# Altium footprint library Interface.PcbLib: 10 footprints
Each footprint in its own frame and in the unit in brackets; x right, y up, seen from the top. Pads: shape width x height; smd on the part's side, far side on the other; paste and mask are expansions set on the pad; w line width, h text height; cw(c..) or ccw(c..) is an arc to the next point about the centre after c.
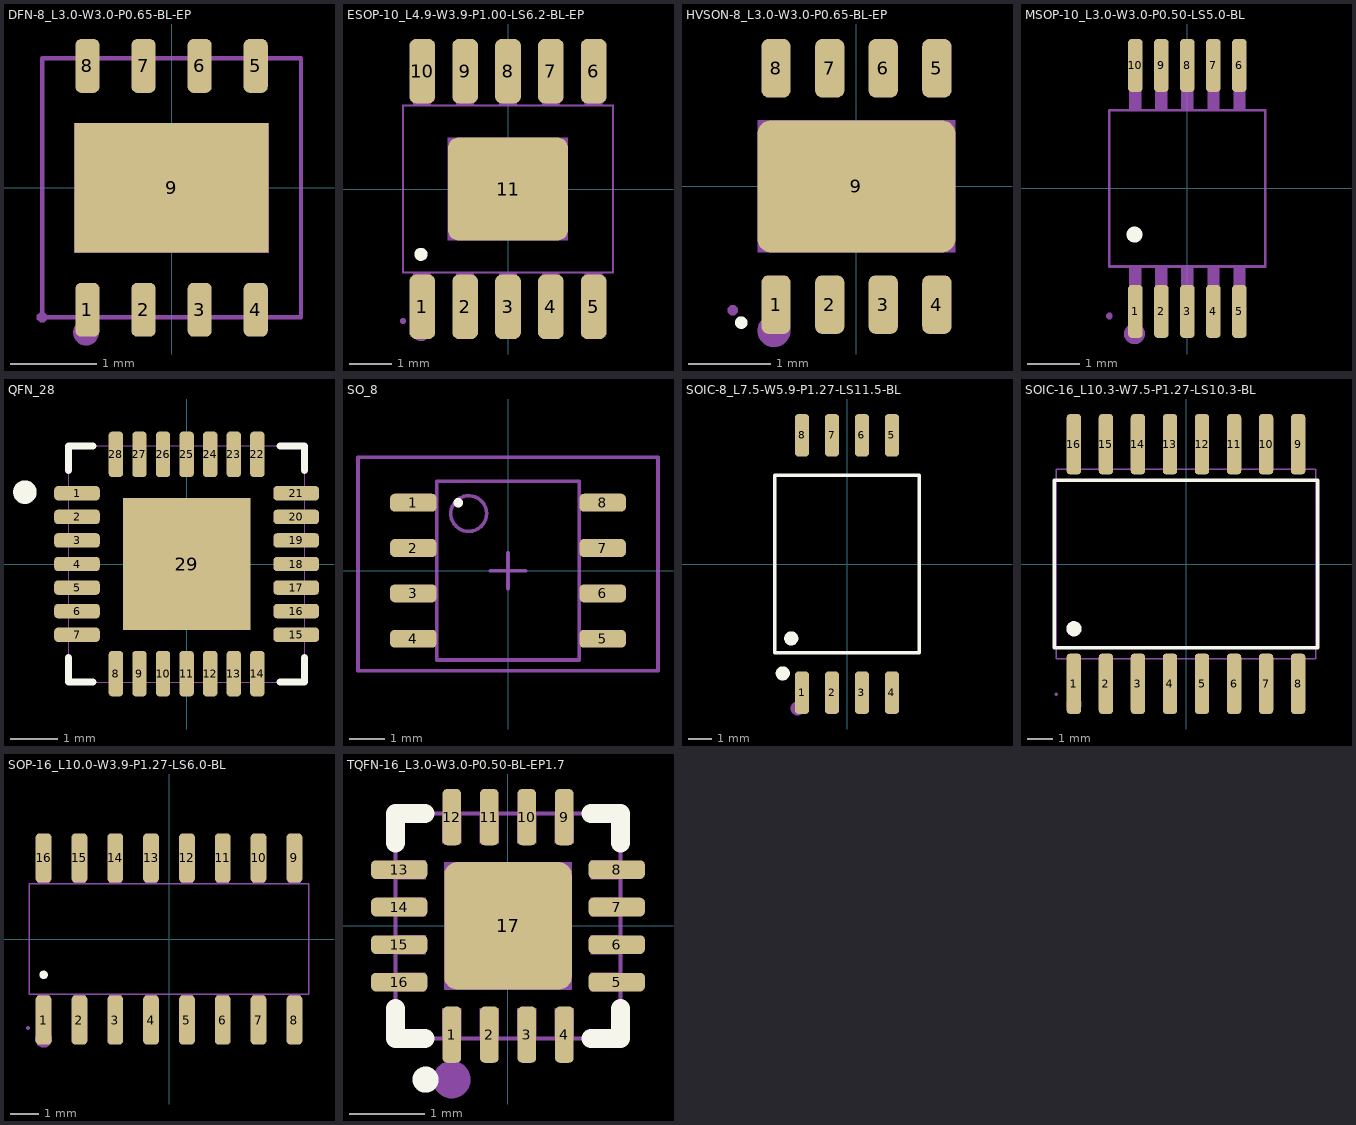
[diagram p0: the footprints below, top view; thin cyan lines are the x and y axes]

## DFN-8_L3.0-W3.0-P0.65-BL-EP [mm]
pads (9):
  rrect50% 0.28x0.625 smd mask+0.051: 1(-0.975,-1.412) 2(-0.325,-1.412) 3(0.325,-1.412) 4(0.975,-1.412) 5(0.975,1.412) 6(0.325,1.412) 7(-0.325,1.412) 8(-0.975,1.412)
  rect 2.25x1.5 smd mask+0.051: 9(0,0)
Mechanical 6:
  circle w0.15: c-0.991,-1.676 r0.075
Mechanical 15:
  region: -1.125,-0.75 -1.125,0.75 1.125,0.75 1.125,-0.75
  region: -1.092,1.499 -1.092,1.124 -0.867,1.124 -0.867,1.499
  region: -0.436,1.499 -0.436,1.124 -0.211,1.124 -0.211,1.499
  region: 0.212,1.499 0.212,1.124 0.437,1.124 0.437,1.499
  region: 0.862,1.499 0.862,1.124 1.088,1.124 1.088,1.499
  region: 0.863,-1.5 0.863,-1.125 1.088,-1.125 1.088,-1.5
  region: 0.212,-1.5 0.212,-1.125 0.437,-1.125 0.437,-1.5
  region: -0.436,-1.5 -0.436,-1.125 -0.211,-1.125 -0.211,-1.5
  region: -1.092,-1.5 -1.092,-1.125 -0.867,-1.125 -0.867,-1.5
  region: -1.44,-1.5 -1.44,-1.475 -1.475,-1.44 -1.525,-1.44 -1.56,-1.475 -1.56,-1.5 -1.56,-1.525 -1.525,-1.56 -1.475,-1.56 -1.44,-1.525 -1.44,-1.5
  lines w0.051: -1.5,-1.5 1.5,-1.5 1.5,1.5 -1.5,1.5 -1.5,-1.5
3D body "DFN-8 3x3.step": height 1, standoff 0, extent -1.5,-1.525 1.5,1.525

## ESOP-10_L4.9-W3.9-P1.00-LS6.2-BL-EP [mm]
pads (11):
  rrect50% 0.6x1.5 smd: 1(-2,-2.75) 2(-1,-2.75) 3(0,-2.75) 4(1,-2.75) 5(2,-2.75) 6(2,2.75) 7(1,2.75) 8(0,2.75) 9(-1,2.75) 10(-2,2.75)
  rrect20% 2.8x2.4 smd: 11(0,0)
Top Overlay:
  circle w0.254: c-2.032,-1.524 r0.024
Mechanical 6:
  circle w0.2: c-2.03,-3.35 r0.1
Mechanical 15:
  region: 1.4,-1.2 -1.4,-1.2 -1.4,1.2 1.4,1.2
  region: 2.203,2.58 1.797,2.58 1.797,3.08 2.203,3.08
  region: 2.2,1.94 1.794,1.94 1.794,2.585 2.2,2.585
  region: 1.203,2.58 0.797,2.58 0.797,3.08 1.203,3.08
  region: 1.2,1.94 0.794,1.94 0.794,2.585 1.2,2.585
  region: 0.203,2.58 -0.203,2.58 -0.203,3.08 0.203,3.08
  region: 0.2,1.94 -0.206,1.94 -0.206,2.585 0.2,2.585
  region: -0.797,2.58 -1.203,2.58 -1.203,3.08 -0.797,3.08
  region: -0.8,1.94 -1.206,1.94 -1.206,2.585 -0.8,2.585
  region: -1.8,2.58 -2.206,2.58 -2.206,3.08 -1.8,3.08
  region: -1.8,1.94 -2.206,1.94 -2.206,2.585 -1.8,2.585
  region: -1.797,-3.07 -2.203,-3.07 -2.203,-2.57 -1.797,-2.57
  region: -1.8,-2.58 -2.206,-2.58 -2.206,-1.935 -1.8,-1.935
  region: -0.8,-3.07 -1.206,-3.07 -1.206,-2.57 -0.8,-2.57
  region: -0.8,-2.58 -1.206,-2.58 -1.206,-1.935 -0.8,-1.935
  region: 0.203,-3.07 -0.203,-3.07 -0.203,-2.57 0.203,-2.57
  region: 0.2,-2.58 -0.206,-2.58 -0.206,-1.935 0.2,-1.935
  region: 1.203,-3.07 0.797,-3.07 0.797,-2.57 1.203,-2.57
  region: 1.2,-2.58 0.794,-2.58 0.794,-1.935 1.2,-1.935
  region: 2.2,-3.07 1.794,-3.07 1.794,-2.57 2.2,-2.57
  region: 2.2,-2.58 1.794,-2.58 1.794,-1.935 2.2,-1.935
  region: -2.39,-3.08 -2.391,-3.056 -2.426,-3.021 -2.475,-3.021 -2.51,-3.056 -2.51,-3.08 -2.51,-3.105 -2.475,-3.139 -2.426,-3.139 -2.391,-3.105 -2.39,-3.08
  lines w0.051: -2.45,-1.95 -2.45,1.95 2.45,1.95 2.45,-1.95 -2.45,-1.95

## HVSON-8_L3.0-W3.0-P0.65-BL-EP [mil]
pads (9):
  rrect50% 14x28 smd: 1(-38.39,-56.4) 2(-12.79,-56.4) 3(12.8,-56.4) 4(38.39,-56.4) 5(38.39,56.4) 6(12.8,56.4) 7(-12.79,56.4) 8(-38.39,56.4)
  rrect20% 94.49x62.99 smd: 9(0,0)
Top Overlay:
  circle w4: c-55,-65 r1
Mechanical 6:
  circle w7.87: c-39.37,-68.9 r3.94
Mechanical 15:
  region: -44.3,-59.05 -44.3,-43.31 -32.48,-43.31 -32.48,-59.05
  region: -18.7,-59.05 -18.7,-43.31 -6.88,-43.31 -6.88,-59.05
  region: 6.89,-59.05 6.89,-43.31 18.71,-43.31 18.71,-59.05
  region: 32.48,-59.05 32.48,-43.31 44.3,-43.31 44.3,-59.05
  region: 32.48,43.31 32.48,59.05 44.3,59.05 44.3,43.31
  region: 6.89,43.31 6.89,59.05 18.71,59.05 18.71,43.31
  region: -18.7,43.31 -18.7,59.05 -6.88,59.05 -6.88,43.31
  region: -44.3,43.31 -44.3,59.05 -32.48,59.05 -32.48,43.31
  region: -47.24,31.5 47.24,31.5 47.24,-31.5 -47.24,-31.5
  region: -56.69,-59.05 -56.69,-58.08 -58.08,-56.69 -60.03,-56.69 -61.42,-58.08 -61.42,-59.05 -61.42,-60.03 -60.03,-61.42 -58.08,-61.42 -56.69,-60.03 -56.69,-59.05
3D body "User Library-HVSON-8.STEP": height 39.37, standoff 0, extent -58.61,-59 58.72,59.11

## MSOP-10_L3.0-W3.0-P0.50-LS5.0-BL [mm]
pads (10):
  rrect50% 0.28x1.016 smd: 1(-1,-2.364) 2(-0.5,-2.364) 3(0,-2.364) 4(0.5,-2.364) 5(1,-2.364) 6(1,2.364) 7(0.5,2.364) 8(0,2.364) 9(-0.5,2.364) 10(-1,2.364)
Top Overlay:
  circle w0.3: c-1.016,-0.889 r0.003
Mechanical 6:
  circle w0.2: c-1.016,-2.794 r0.1
Mechanical 15:
  region: 0.888,1.91 0.888,1.49 1.112,1.49 1.112,1.91
  region: 0.888,2.45 0.888,1.9 1.112,1.9 1.112,2.45
  region: 0.388,1.91 0.388,1.49 0.612,1.49 0.612,1.91
  region: 0.388,2.45 0.388,1.9 0.612,1.9 0.612,2.45
  region: -0.112,1.91 -0.112,1.49 0.112,1.49 0.112,1.91
  region: -0.112,2.45 -0.112,1.9 0.112,1.9 0.112,2.45
  region: -0.612,1.91 -0.612,1.49 -0.388,1.49 -0.388,1.91
  region: -0.612,2.45 -0.612,1.9 -0.388,1.9 -0.388,2.45
  region: -1.112,1.91 -1.112,1.49 -0.888,1.49 -0.888,1.91
  region: -1.112,2.45 -1.112,1.9 -0.888,1.9 -0.888,2.45
  region: 0.888,-1.91 0.888,-1.49 1.112,-1.49 1.112,-1.91
  region: 0.888,-2.45 0.888,-1.9 1.112,-1.9 1.112,-2.45
  region: 0.388,-1.91 0.388,-1.49 0.612,-1.49 0.612,-1.91
  region: 0.388,-2.45 0.388,-1.9 0.612,-1.9 0.612,-2.45
  region: -0.112,-1.91 -0.112,-1.49 0.112,-1.49 0.112,-1.91
  region: -0.112,-2.45 -0.112,-1.9 0.112,-1.9 0.112,-2.45
  region: -0.612,-1.91 -0.612,-1.49 -0.388,-1.49 -0.388,-1.91
  region: -0.612,-2.45 -0.612,-1.9 -0.388,-1.9 -0.388,-2.45
  region: -1.112,-1.91 -1.112,-1.49 -0.888,-1.49 -0.888,-1.91
  region: -1.112,-2.45 -1.112,-1.9 -0.888,-1.9 -0.888,-2.45
  region: -1.44,-2.45 -1.44,-2.425 -1.475,-2.39 -1.525,-2.39 -1.56,-2.425 -1.56,-2.45 -1.56,-2.475 -1.525,-2.51 -1.475,-2.51 -1.44,-2.475 -1.44,-2.45
  lines w0.051: -1.5,-1.5 1.5,-1.5 1.5,1.5 -1.5,1.5 -1.5,-1.5
3D body "MSOP-10 0.50p 3mm.step": height 1, standoff 0, extent -1.5,-2.45 1.5,2.45

## QFN_28 [mil] "QFN_28"
height 169.29
pads (29):
  rrect50% 38x12 smd mask+5: 1(-91.5,59.06) 2(-91.5,39.37) 3(-91.5,19.68) 4(-91.5,0) 5(-91.5,-19.68) 6(-91.5,-39.37) 7(-91.5,-59.06) 15(91.5,-59.06) 16(91.5,-39.37) 17(91.5,-19.68) 18(91.5,0) 19(91.5,19.68) 20(91.5,39.37) 21(91.5,59.06)
  rrect50% 12x38 smd mask+5: 8(-59.06,-91.5) 9(-39.37,-91.5) 10(-19.68,-91.5) 11(0,-91.5) 12(19.68,-91.5) 13(39.37,-91.5) 14(59.06,-91.5) 22(59.06,91.5) 23(39.37,91.5) 24(19.68,91.5) 25(0,91.5) 26(-19.68,91.5) 27(-39.37,91.5) 28(-59.06,91.5)
  rect 106.3x110.24 smd: 29(0,0)
Top Overlay:
  circle w9.84: c-135,60 r4.92
  lines w6: -98.5,-78.16 -98.5,-98.5 -78.16,-98.5 ; -98.5,78.16 -98.5,98.5 -78.16,98.5 ; 78.16,-98.5 98.5,-98.5 98.5,-78.16 ; 78.16,98.5 98.5,98.5 98.5,78.16
Mechanical 1:
  lines w0: -98.5,-98.5 98.5,-98.5 98.5,98.5 -98.5,98.5 -98.5,-98.5 ; -98.5,-65.06 -98.5,-53.06 -98.5,-65.06 ; -98.5,-45.37 -98.5,-33.37 -98.5,-45.37 ; -98.5,-25.68 -98.5,-13.69 -98.5,-25.68 ; -98.5,-6 -98.5,6 -98.5,-6 ; -98.5,13.69 -98.5,25.68 -98.5,13.69 ; -98.5,33.37 -98.5,45.37 -98.5,33.37 ; -98.5,53.06 -98.5,65.06 -98.5,53.06 ; -65.06,-98.5 -53.06,-98.5 -65.06,-98.5 ; -65.06,98.5 -53.06,98.5 -65.06,98.5 ; -45.37,-98.5 -33.37,-98.5 -45.37,-98.5 ; -45.37,98.5 -33.37,98.5 -45.37,98.5 ; -25.68,-98.5 -13.69,-98.5 -25.68,-98.5 ; -25.68,98.5 -13.69,98.5 -25.68,98.5 ; -6,-98.5 6,-98.5 -6,-98.5 ; -6,98.5 6,98.5 -6,98.5 ; 13.69,-98.5 25.68,-98.5 13.69,-98.5 ; 13.69,98.5 25.68,98.5 13.69,98.5 ; 33.37,-98.5 45.37,-98.5 33.37,-98.5 ; 33.37,98.5 45.37,98.5 33.37,98.5 ; 53.06,-98.5 65.06,-98.5 53.06,-98.5 ; 53.06,98.5 65.06,98.5 53.06,98.5 ; 98.5,-65.06 98.5,-53.06 98.5,-65.06 ; 98.5,-45.37 98.5,-33.37 98.5,-45.37 ; 98.5,-25.68 98.5,-13.69 98.5,-25.68 ; 98.5,-6 98.5,6 98.5,-6 ; 98.5,13.69 98.5,25.68 98.5,13.69 ; 98.5,33.37 98.5,45.37 98.5,33.37 ; 98.5,53.06 98.5,65.06 98.5,53.06
3D body "321.stp": height 35.43, standoff 0, extent -98.5,-98.5 98.35,98.35

## SO_8 [mm] "SOP_8"
pads (8):
  rrect50% 1.3x0.5 smd: 1(-2.65,1.905) 2(-2.65,0.635) 3(-2.65,-0.635) 4(-2.65,-1.905) 5(2.65,-1.905) 6(2.65,-0.635) 7(2.65,0.635) 8(2.65,1.905)
Top Overlay:
  circle w0.25: c-1.397,1.905 r0.011
Mechanical 13:
  circle w0.1: c-1.1,1.6 r0.5
  lines w0.1: -2,-2.5 2,-2.5 2,2.5 -2,2.5 -2,-2.5
Mechanical 15:
  lines w0.1: -0.5,0 0.5,0 ; 0,-0.5 0,0.5 ; -4.2,-2.8 4.2,-2.8 4.2,3.175 -4.2,3.175 -4.2,-2.8
3D body "SW3DPS-SO-8-DEFAULT.STEP": height 1.45, standoff 0, extent -2.889,-2.439 2.889,2.464

## SOIC-8_L7.5-W5.9-P1.27-LS11.5-BL [mm]
pads (8):
  rrect50% 0.6x1.8 smd mask+0.051: 1(-1.905,-5.45) 2(-0.635,-5.45) 3(0.635,-5.45) 4(1.905,-5.45) 5(1.905,5.45) 6(0.635,5.45) 7(-0.635,5.45) 8(-1.905,5.45)
Top Overlay:
  circle w0.3: c-2.72,-4.63 r0.15
  circle w0.3: c-2.36,-3.15 r0.15
  lines w0.152: -3.065,-3.75 3.065,-3.75 3.065,3.75 -3.065,3.75 -3.065,-3.75
Mechanical 6:
  circle w0.3: c-2.09,-6.11 r0.15

## SOIC-16_L10.3-W7.5-P1.27-LS10.3-BL [mm]
pads (16):
  rrect50% 0.574x2.401 smd: 1(-4.445,-4.75) 2(-3.175,-4.75) 3(-1.905,-4.75) 4(-0.635,-4.75) 5(0.635,-4.75) 6(1.905,-4.75) 7(3.175,-4.75) 8(4.445,-4.75) 9(4.445,4.75) 10(3.175,4.75) 11(1.905,4.75) 12(0.635,4.75) 13(-0.635,4.75) 14(-1.905,4.75) 15(-3.175,4.75) 16(-4.445,4.75)
Top Overlay:
  circle w0.3: c-4.445,-2.569 r0.15
  lines w0.152: -5.226,-3.321 -5.226,3.321 5.226,3.321 5.226,-3.321 -5.226,-3.321
Mechanical 6:
  circle w0.3: c-4.445,-5.563 r0.15
Mechanical 15:
  drawing of 37 lines, arcs and shapes, not listed

## SOP-16_L10.0-W3.9-P1.27-LS6.0-BL [mm]
pads (16):
  rrect50% 0.56x1.745 smd: 1(-4.445,-2.872) 2(-3.175,-2.872) 3(-1.905,-2.872) 4(-0.635,-2.872) 5(0.635,-2.872) 6(1.905,-2.872) 7(3.175,-2.872) 8(4.445,-2.872) 9(4.445,2.872) 10(3.175,2.872) 11(1.905,2.872) 12(0.635,2.872) 13(-0.635,2.872) 14(-1.905,2.872) 15(-3.175,2.872) 16(-4.445,2.872)
Top Overlay:
  circle w0.3: c-4.445,-1.27 r0.003
Mechanical 6:
  circle w0.3: c-4.445,-3.55 r0.15
Mechanical 15:
  drawing of 37 lines, arcs and shapes, not listed

## TQFN-16_L3.0-W3.0-P0.50-BL-EP1.7 [mm]
pads (17):
  rrect50% 0.25x0.75 smd paste-100 mask+0.051: 1(-0.748,-1.45) 2(-0.249,-1.45) 3(0.252,-1.45) 4(0.751,-1.45) 9(0.75,1.45) 10(0.25,1.45) 11(-0.25,1.45) 12(-0.749,1.45)
  rrect50% 0.75x0.25 smd paste-100 mask+0.051: 5(1.45,-0.75) 6(1.45,-0.25) 7(1.45,0.25) 8(1.45,0.75) 13(-1.45,0.75) 14(-1.45,0.25) 15(-1.45,-0.25) 16(-1.45,-0.75)
  rrect20% 1.7x1.7 smd paste-100 mask+0.051: 17(0,0)
Top Overlay:
  circle w0.254: c-1.1,-2.05 r0.047
  lines w0.254: -1.5,-1.104 -1.5,-1.5 -1.105,-1.5 ; -1.5,1.108 -1.5,1.5 -1.105,1.5 ; 1.106,1.5 1.5,1.5 1.5,1.108 ; 1.108,-1.5 1.5,-1.5 1.5,-1.104
Top Paste:
  region: -0.68,0.68 0.68,0.68 0.68,-0.68 -0.68,-0.68
  region: -1.075,0.625 -1.075,0.875 -1.825,0.875 -1.825,0.625
  region: -1.075,0.125 -1.075,0.375 -1.825,0.375 -1.825,0.125
  region: -1.075,-0.375 -1.075,-0.125 -1.825,-0.125 -1.825,-0.375
  region: -1.075,-0.875 -1.075,-0.625 -1.825,-0.625 -1.825,-0.875
  region: 1.825,0.625 1.825,0.875 1.075,0.875 1.075,0.625
  region: 1.825,0.125 1.825,0.375 1.075,0.375 1.075,0.125
  region: 1.825,-0.375 1.825,-0.125 1.075,-0.125 1.075,-0.375
  region: 1.825,-0.875 1.825,-0.625 1.075,-0.625 1.075,-0.875
  region: -0.624,1.825 -0.874,1.825 -0.874,1.075 -0.624,1.075
  region: -0.124,1.825 -0.374,1.825 -0.374,1.075 -0.124,1.075
  region: 0.376,1.825 0.126,1.825 0.126,1.075 0.376,1.075
  region: 0.876,1.825 0.626,1.825 0.626,1.075 0.876,1.075
  region: -0.623,-1.075 -0.873,-1.075 -0.873,-1.825 -0.623,-1.825
  region: -0.124,-1.075 -0.374,-1.075 -0.374,-1.825 -0.124,-1.825
  region: 0.377,-1.075 0.127,-1.075 0.127,-1.825 0.377,-1.825
  region: 0.876,-1.075 0.626,-1.075 0.626,-1.825 0.876,-1.825
Mechanical 6:
  circle w0.25: c-0.75,-2.05 r0.125
Mechanical 15:
  region: -1.44,-1.5 -1.44,-1.475 -1.475,-1.44 -1.525,-1.44 -1.56,-1.475 -1.56,-1.5 -1.56,-1.525 -1.525,-1.56 -1.475,-1.56 -1.44,-1.525 -1.44,-1.5
  region: -1.1,-0.625 -1.1,-0.875 -1.5,-0.875 -1.5,-0.625
  region: -1.1,-0.125 -1.1,-0.375 -1.5,-0.375 -1.5,-0.125
  region: -1.1,0.375 -1.1,0.125 -1.5,0.125 -1.5,0.375
  region: -1.1,0.875 -1.1,0.625 -1.5,0.625 -1.5,0.875
  region: -0.874,1.5 -0.624,1.5 -0.624,1.1 -0.874,1.1
  region: -0.374,1.5 -0.124,1.5 -0.124,1.1 -0.374,1.1
  region: 0.125,1.5 0.375,1.5 0.375,1.1 0.125,1.1
  region: 0.625,1.5 0.875,1.5 0.875,1.1 0.625,1.1
  region: 1.1,0.625 1.1,0.875 1.5,0.875 1.5,0.625
  region: 1.1,0.125 1.1,0.375 1.5,0.375 1.5,0.125
  region: 1.1,-0.375 1.1,-0.125 1.5,-0.125 1.5,-0.375
  region: 1.1,-0.875 1.1,-0.625 1.5,-0.625 1.5,-0.875
  region: 0.876,-1.5 0.626,-1.5 0.626,-1.1 0.876,-1.1
  region: 0.377,-1.5 0.127,-1.5 0.127,-1.1 0.377,-1.1
  region: -0.124,-1.5 -0.374,-1.5 -0.374,-1.1 -0.124,-1.1
  region: -0.623,-1.5 -0.873,-1.5 -0.873,-1.1 -0.623,-1.1
  region: -0.85,0.85 0.85,0.85 0.85,-0.85 -0.85,-0.85
  lines w0.051: -1.5,-1.5 1.5,-1.5 1.5,1.5 -1.5,1.5 -1.5,-1.5